# Altium footprint library CAP(10uF, 0805,10V, CER, X7R).PcbLib: 1 footprints
Each footprint in its own frame and in the unit in brackets; x right, y up, seen from the top. Pads: shape width x height; smd on the part's side, far side on the other; paste and mask are expansions set on the pad; w line width, h text height; cw(c..) or ccw(c..) is an arc to the next point about the centre after c.
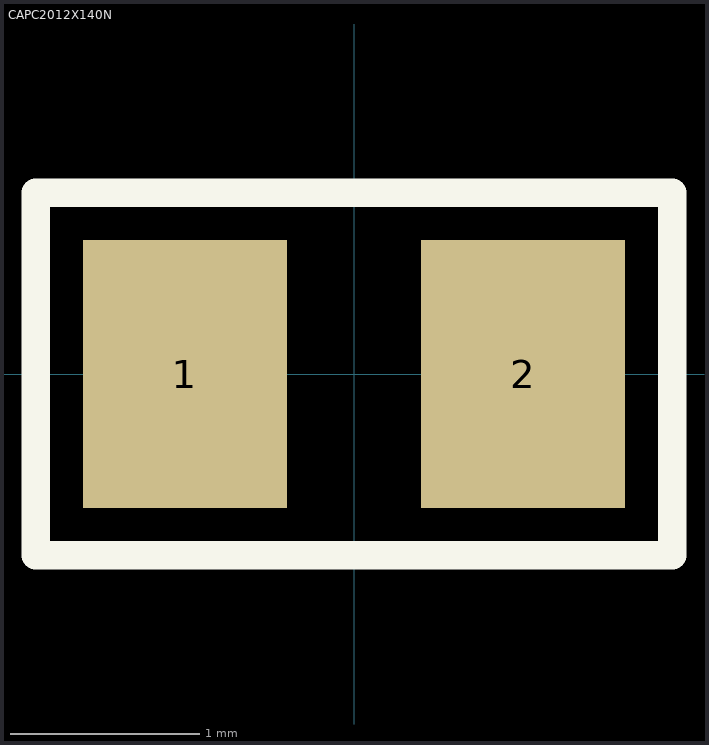
[diagram p0: the footprint, top view; thin cyan lines are the x and y axes]

## CAPC2012X140N [mm]
height 1.4
pads (2):
  rect 1.08x1.42 smd mask+0: 1(-0.895,0) 2(0.895,0)
Top Overlay:
  lines w0.152: -1.685,-0.96 -1.685,0.96 1.685,0.96 1.685,-0.96 -1.685,-0.96
3D body "GRM21BR71A106KA73L.step": height 1.26, standoff 0.01, extent -1,-0.686 1,0.714